# EAGLE library part ASMB-UTF0-0D20B (library basisplatine_lib)
Standard LEDs - SMD 2828 Tricolor PLCC6 LEDs Source: Datasheet <https://docs.broadcom.com/docs/ASMB-UTF0-0D20B-DS100>
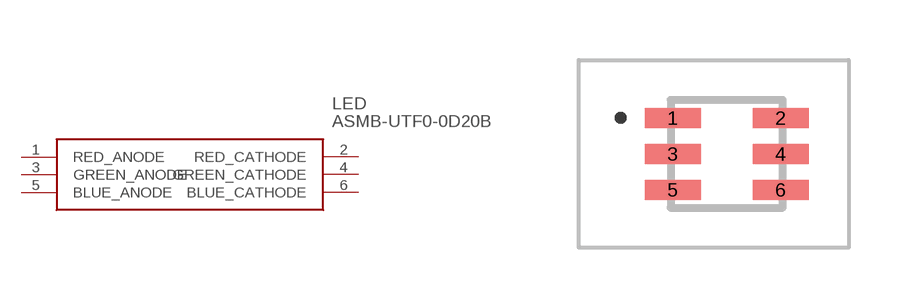
[diagram p6: symbol with the pads of ASMBUTF00D20B; footprint ASMBUTF00D20B]

Designator prefix LED

## ASMB-UTF0-0D20B (DESCRIPTION: Standard LEDs - SMD 2828 Tricolor PLCC6 LEDs; HEIGHT: 2.6mm; MANUFACTURER_NAME: Avago Technologies; MANUFACTURER_PART_NUMBER: ASMB-UTF0-0D20B; MOUSER_PART_NUMBER: 630-ASMB-UTF0-0D20B; MOUSER_PRICE-STOCK: https://www.mouser.com/Search/Refine.aspx?Keyword=630-ASMB-UTF0-0D20B)  [ASMBUTF00D20B]
1  RED_ANODE
2  RED_CATHODE
3  GREEN_ANODE
4  GREEN_CATHODE
5  BLUE_ANODE
6  BLUE_CATHODE

## Footprint ASMBUTF00D20B (pad centres in mm)
ASMB-UTF0-0D20B-1
smd 1.4 x 0.5: 1 -1.35,0.9; 2 1.35,0.9; 3 -1.35,0; 4 1.35,0; 5 -1.35,-0.9; 6 1.35,-0.9